# Altium footprint library IC_DIP.PCBLIB: 27 footprints (part 2 of 2)
Each footprint in its own frame and in the unit in brackets; x right, y up, seen from the top. Pads: shape width x height; smd on the part's side, far side on the other; paste and mask are expansions set on the pad; w line width, h text height; cw(c..) or ccw(c..) is an arc to the next point about the centre after c.
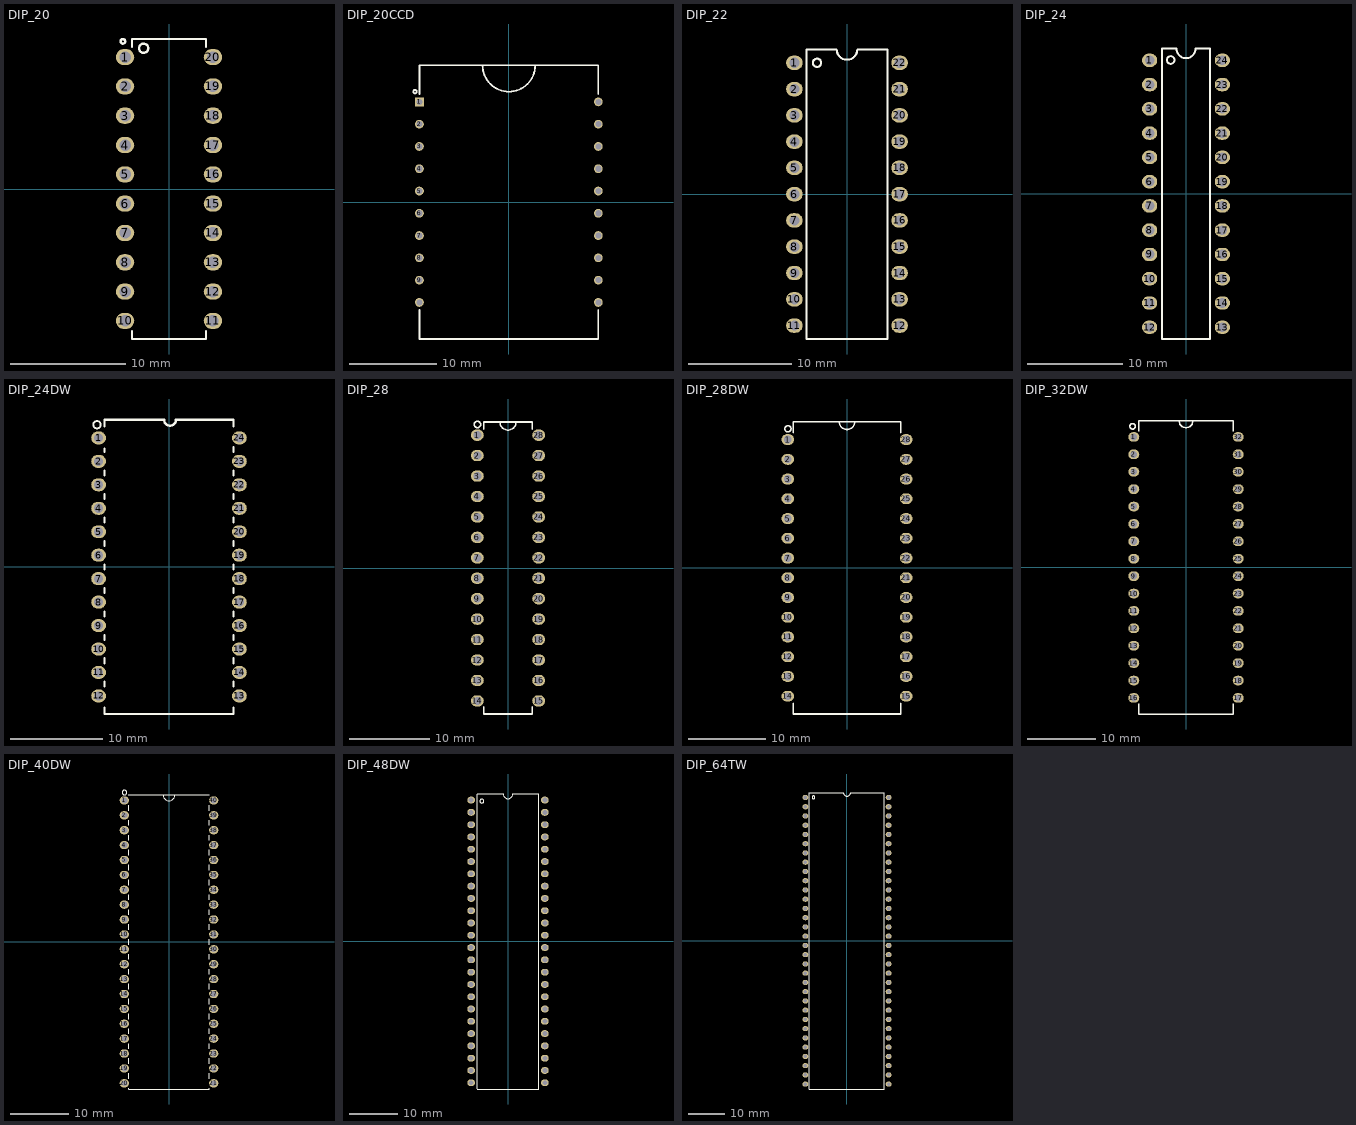
[diagram p1: the footprints below, top view; thin cyan lines are the x and y axes]

## DIP_20 [mm] "DIP, pitch 2.54mm, 300mil Width"
pads (20):
  oval 1.6x1.4 / inner round 1.4 / far side oval 2.2x1.4 hole 1: 1(-3.81,11.43) 2(-3.81,8.89) 3(-3.81,6.35) 4(-3.81,3.81) 5(-3.81,1.27) 6(-3.81,-1.27) 7(-3.81,-3.81) 8(-3.81,-6.35) 9(-3.81,-8.89) 10(-3.81,-11.43) 11(3.81,-11.43) 12(3.81,-8.89) 13(3.81,-6.35) 14(3.81,-3.81) 15(3.81,-1.27) 16(3.81,1.27) 17(3.81,3.81) 18(3.81,6.35) 19(3.81,8.89) 20(3.81,11.43)
TopOverlay:
  circle w0.2: c-4,12.8 r0.2
  circle w0.2: c-2.2,12.2 r0.4
  lines w0.2: -3.2,-12.3 -3.2,-13 3.2,-13 3.2,-12.3 ; -3.2,12.3 -3.2,13 3.2,13 3.2,12.3
3D body "User Library-20 pin dip.step": height 5.05, standoff -1.17, extent -3.937,-12.89 3.937,12.891

## DIP_20CCD [mm] "ICX285AL"
pads (20):
  rect 1x1 / inner rect 1x1 / far side rect 1.4x1.2 hole 0.7: 1(-10.2,11.43)
  round 1 / inner round 1 / far side oval 1.4x1.2 hole 0.7: 2(-10.2,8.89) 3(-10.2,6.35) 4(-10.2,3.81) 5(-10.2,1.27) 6(-10.2,-1.27) 7(-10.2,-3.81) 8(-10.2,-6.35) 9(-10.2,-8.89) 10(-10.2,-11.43) 11(10.2,-11.43) 12(10.2,-8.89) 13(10.2,-6.35) 14(10.2,-3.81) 15(10.2,-1.27) 16(10.2,1.27) 17(10.2,3.81) 18(10.2,6.35) 19(10.2,8.89) 20(10.2,11.43)
TopOverlay:
  circle w0.2: c-10.7,12.6 r0.2
  lines w0.2: -10.2,-12.3 -10.2,-15.6 10.2,-15.6 10.2,-12.3 ; -10.2,12.3 -10.2,15.6 10.2,15.6 10.2,12.3 ; -3,15.6 ccw(c0,15.6) 3,15.6

## DIP_22 [mm] "DIP, pitch 2.54mm, 400mil Width, 28X10mm"
pads (22):
  oval 1.6x1.4 / inner round 1.4 / far side oval 2.2x1.4 hole 1: 1(-5.08,12.7) 2(-5.08,10.16) 3(-5.08,7.62) 4(-5.08,5.08) 5(-5.08,2.54) 6(-5.08,0) 7(-5.08,-2.54) 8(-5.08,-5.08) 9(-5.08,-7.62) 10(-5.08,-10.16) 11(-5.08,-12.7) 12(5.08,-12.7) 13(5.08,-10.16) 14(5.08,-7.62) 15(5.08,-5.08) 16(5.08,-2.54) 17(5.08,0) 18(5.08,2.54) 19(5.08,5.08) 20(5.08,7.62) 21(5.08,10.16) 22(5.08,12.7)
TopOverlay:
  circle w0.2: c-2.9,12.7 r0.4
  lines w0.2: -3.9,-14 3.9,-14 3.9,14 1,14 cw(c0,14) -1,14 -3.9,14 -3.9,-14

## DIP_24 [mm] "DIP, pitch 2.54mm, 300mil Width"
pads (24):
  oval 1.6x1.4 / inner round 1.4 / far side oval 2.2x1.4 hole 1: 1(-3.81,13.97) 2(-3.81,11.43) 3(-3.81,8.89) 4(-3.81,6.35) 5(-3.81,3.81) 6(-3.81,1.27) 7(-3.81,-1.27) 8(-3.81,-3.81) 9(-3.81,-6.35) 10(-3.81,-8.89) 11(-3.81,-11.43) 12(-3.81,-13.97) 13(3.81,-13.97) 14(3.81,-11.43) 15(3.81,-8.89) 16(3.81,-6.35) 17(3.81,-3.81) 18(3.81,-1.27) 19(3.81,1.27) 20(3.81,3.81) 21(3.81,6.35) 22(3.81,8.89) 23(3.81,11.43) 24(3.81,13.97)
TopOverlay:
  circle w0.2: c-1.6,14 r0.4
  lines w0.2: -2.5,-15.2 -2.5,15.2 -1,15.2 ccw(c0,15.2) 1,15.2 2.5,15.2 2.5,-15.2 -2.5,-15.2

## DIP_24DW [mm] "DIP, pitch 2.54mm, 600mil Width"
pads (24):
  oval 1.6x1.4 / inner round 1.4 / far side oval 2.2x1.4 hole 1: 1(-7.62,13.97) 2(-7.62,11.43) 3(-7.62,8.89) 4(-7.62,6.35) 5(-7.62,3.81) 6(-7.62,1.27) 7(-7.62,-1.27) 8(-7.62,-3.81) 9(-7.62,-6.35) 10(-7.62,-8.89) 11(-7.62,-11.43) 12(-7.62,-13.97) 13(7.62,-13.97) 14(7.62,-11.43) 15(7.62,-8.89) 16(7.62,-6.35) 17(7.62,-3.81) 18(7.62,-1.27) 19(7.62,1.27) 20(7.62,3.81) 21(7.62,6.35) 22(7.62,8.89) 23(7.62,11.43) 24(7.62,13.97)
TopOverlay:
  circle w0.2: c-7.8,15.4 r0.4
  lines w0.254: -6.985,-15.24 -6.985,-15.926 6.985,-15.926 6.985,-15.24 ; -6.985,-12.954 -6.985,-12.446 ; -6.985,-10.414 -6.985,-9.906 ; -6.985,-7.874 -6.985,-7.366 ; -6.985,-5.334 -6.985,-4.826 ; -6.985,-2.794 -6.985,-2.286 ; -6.985,-0.254 -6.985,0.254 ; -6.985,2.286 -6.985,2.794 ; -6.985,4.826 -6.985,5.334 ; -6.985,7.366 -6.985,7.874 ; -6.985,9.906 -6.985,10.414 ; -6.985,12.446 -6.985,12.827 ; -6.985,15.24 -6.985,15.926 -0.545,15.926 ; -0.521,15.925 ccw(c0.114,15.925) 0.749,15.925 6.985,15.926 6.985,15.24 ; 6.985,-12.954 6.985,-12.446 ; 6.985,-10.414 6.985,-9.906 ; 6.985,-7.874 6.985,-7.366 ; 6.985,-5.334 6.985,-4.826 ; 6.985,-2.794 6.985,-2.286 ; 6.985,-0.254 6.985,0.254 ; 6.985,2.286 6.985,2.794 ; 6.985,4.826 6.985,5.334 ; 6.985,7.366 6.985,7.874 ; 6.985,9.906 6.985,10.414 ; 6.985,12.446 6.985,12.954
3D body "DDIP24-600.STEP": height 4, standoff -2, extent -7.745,-15.875 7.745,15.875

## DIP_28 [mm] "DIP, pitch 2.54mm, 300mil Width"
pads (28):
  oval 1.6x1.4 / inner round 1.4 / far side oval 2.2x1.4 hole 1: 1(-3.81,16.51) 2(-3.81,13.97) 3(-3.81,11.43) 4(-3.81,8.89) 5(-3.81,6.35) 6(-3.81,3.81) 7(-3.81,1.27) 8(-3.81,-1.27) 9(-3.81,-3.81) 10(-3.81,-6.35) 11(-3.81,-8.89) 12(-3.81,-11.43) 13(-3.81,-13.97) 14(-3.81,-16.51) 15(3.81,-16.51) 16(3.81,-13.97) 17(3.81,-11.43) 18(3.81,-8.89) 19(3.81,-6.35) 20(3.81,-3.81) 21(3.81,-1.27) 22(3.81,1.27) 23(3.81,3.81) 24(3.81,6.35) 25(3.81,8.89) 26(3.81,11.43) 27(3.81,13.97) 28(3.81,16.51)
TopOverlay:
  circle w0.2: c-3.8,17.84 r0.4
  lines w0.2: -3,-17.24 -3,-18.14 3,-18.14 3,-17.24 ; -3,17.24 -3,18.14 3,18.14 3,17.24 ; -1,18.14 ccw(c0,18.14) 1,18.14
3D body "User Library-DIP28-300.step": height 5.08, standoff -2.49, extent -3.935,-18 3.935,18

## DIP_28DW [mm] "DIP, pitch 2.54mm, 600mil Width"
pads (28):
  oval 1.6x1.4 / inner round 1.4 / far side oval 2.2x1.4 hole 1: 1(-7.62,16.51) 2(-7.62,13.97) 3(-7.62,11.43) 4(-7.62,8.89) 5(-7.62,6.35) 6(-7.62,3.81) 7(-7.62,1.27) 8(-7.62,-1.27) 9(-7.62,-3.81) 10(-7.62,-6.35) 11(-7.62,-8.89) 12(-7.62,-11.43) 13(-7.62,-13.97) 14(-7.62,-16.51) 15(7.62,-16.51) 16(7.62,-13.97) 17(7.62,-11.43) 18(7.62,-8.89) 19(7.62,-6.35) 20(7.62,-3.81) 21(7.62,-1.27) 22(7.62,1.27) 23(7.62,3.81) 24(7.62,6.35) 25(7.62,8.89) 26(7.62,11.43) 27(7.62,13.97) 28(7.62,16.51)
TopOverlay:
  circle w0.2: c-7.6,17.9 r0.4
  lines w0.2: -6.9,-17.4 -6.9,-18.8 6.9,-18.8 6.9,-17.4 ; -6.9,17.4 -6.9,18.8 6.9,18.8 6.9,17.4 ; -1,18.8 ccw(c0,18.8) 1,18.8
3D body "User Library-DIP28 Wide.STEP": height 6.09, standoff -2.81, extent -7.62,-18.67 7.82,18.67

## DIP_32DW [mm] "DIP, pitch 2.54mm, 600mil Width"
pads (32):
  oval 1.6x1.4 / inner round 1.4 / far side oval 2.2x1.4 hole 1: 1(-7.62,19.05) 2(-7.62,16.51) 3(-7.62,13.97) 4(-7.62,11.43) 5(-7.62,8.89) 6(-7.62,6.35) 7(-7.62,3.81) 8(-7.62,1.27) 9(-7.62,-1.27) 10(-7.62,-3.81) 11(-7.62,-6.35) 12(-7.62,-8.89) 13(-7.62,-11.43) 14(-7.62,-13.97) 15(-7.62,-16.51) 16(-7.62,-19.05) 17(7.62,-19.05) 18(7.62,-16.51) 19(7.62,-13.97) 20(7.62,-11.43) 21(7.62,-8.89) 22(7.62,-6.35) 23(7.62,-3.81) 24(7.62,-1.27) 25(7.62,1.27) 26(7.62,3.81) 27(7.62,6.35) 28(7.62,8.89) 29(7.62,11.43) 30(7.62,13.97) 31(7.62,16.51) 32(7.62,19.05)
TopOverlay:
  circle w0.2: c-7.8,20.6 r0.4
  lines w0.2: -6.9,-19.9 -6.9,-21.4 6.9,-21.4 6.9,-19.9 ; -6.9,19.9 -6.9,21.4 6.9,21.4 6.9,19.9 ; -1,21.4 ccw(c0,21.4) 1,21.4

## DIP_40DW [mm] "DIP, pitch 2.54mm, 600mil Width"
pads (40):
  oval 1.6x1.4 / inner round 1.4 / far side oval 2.2x1.4 hole 1: 1(-7.62,24.13) 2(-7.62,21.59) 3(-7.62,19.05) 4(-7.62,16.51) 5(-7.62,13.97) 6(-7.62,11.43) 7(-7.62,8.89) 8(-7.62,6.35) 9(-7.62,3.81) 10(-7.62,1.27) 11(-7.62,-1.27) 12(-7.62,-3.81) 13(-7.62,-6.35) 14(-7.62,-8.89) 15(-7.62,-11.43) 16(-7.62,-13.97) 17(-7.62,-16.51) 18(-7.62,-19.05) 19(-7.62,-21.59) 20(-7.62,-24.13) 21(7.62,-24.13) 22(7.62,-21.59) 23(7.62,-19.05) 24(7.62,-16.51) 25(7.62,-13.97) 26(7.62,-11.43) 27(7.62,-8.89) 28(7.62,-6.35) 29(7.62,-3.81) 30(7.62,-1.27) 31(7.62,1.27) 32(7.62,3.81) 33(7.62,6.35) 34(7.62,8.89) 35(7.62,11.43) 36(7.62,13.97) 37(7.62,16.51) 38(7.62,19.05) 39(7.62,21.59) 40(7.62,24.13)
TopOverlay:
  circle w0.2: c-7.6,25.48 r0.4
  lines w0.2: -6.9,-24.98 -6.9,-25.1 6.9,-25.1 6.9,-24.98 ; -6.9,-23.32 -6.9,-22.42 ; -6.9,-20.78 -6.9,-19.88 ; -6.9,-18.24 -6.9,-17.34 ; -6.9,-15.7 -6.9,-14.8 ; -6.9,-13.16 -6.9,-12.26 ; -6.9,-10.62 -6.9,-9.72 ; -6.9,-8.08 -6.9,-7.18 ; -6.9,-5.54 -6.9,-4.64 ; -6.9,-3 -6.9,-2.1 ; -6.9,-0.46 -6.9,0.44 ; -6.9,2.08 -6.9,2.98 ; -6.9,4.62 -6.9,5.52 ; -6.9,7.16 -6.9,8.06 ; -6.9,9.7 -6.9,10.6 ; -6.9,12.24 -6.9,13.14 ; -6.9,14.78 -6.9,15.68 ; -6.9,17.32 -6.9,18.22 ; -6.9,19.86 -6.9,20.76 ; -6.9,22.4 -6.9,23.3 ; -6.9,24.98 -6.9,25.1 6.9,25.1 6.9,24.98 ; -1,25.08 ccw(c0,25.08) 1,25.08 ; 6.9,-23.32 6.9,-22.42 ; 6.9,-20.78 6.9,-19.88 ; 6.9,-18.24 6.9,-17.34 ; 6.9,-15.7 6.9,-14.8 ; 6.9,-13.16 6.9,-12.26 ; 6.9,-10.62 6.9,-9.72 ; 6.9,-8.08 6.9,-7.18 ; 6.9,-5.54 6.9,-4.64 ; 6.9,-3 6.9,-2.1 ; 6.9,-0.46 6.9,0.44 ; 6.9,2.08 6.9,2.98 ; 6.9,4.62 6.9,5.52 ; 6.9,7.16 6.9,8.06 ; 6.9,9.7 6.9,10.6 ; 6.9,12.24 6.9,13.14 ; 6.9,14.78 6.9,15.68 ; 6.9,17.32 6.9,18.22 ; 6.9,19.86 6.9,20.76 ; 6.9,22.4 6.9,23.3
3D body "DIP40-600-metric.step": height 5.5, standoff -3.9, extent -7.65,-25 7.65,25

## DIP_48DW [mm] "DIP, pitch 2.54mm, 600mil Width"
pads (48):
  oval 1.6x1.4 / inner round 1.4 / far side oval 2.2x1.4 hole 1: 1(-7.62,29.21) 2(-7.62,26.67) 3(-7.62,24.13) 4(-7.62,21.59) 5(-7.62,19.05) 6(-7.62,16.51) 7(-7.62,13.97) 8(-7.62,11.43) 9(-7.62,8.89) 10(-7.62,6.35) 11(-7.62,3.81) 12(-7.62,1.27) 13(-7.62,-1.27) 14(-7.62,-3.81) 15(-7.62,-6.35) 16(-7.62,-8.89) 17(-7.62,-11.43) 18(-7.62,-13.97) 19(-7.62,-16.51) 20(-7.62,-19.05) 21(-7.62,-21.59) 22(-7.62,-24.13) 23(-7.62,-26.67) 24(-7.62,-29.21) 25(7.62,-29.21) 26(7.62,-26.67) 27(7.62,-24.13) 28(7.62,-21.59) 29(7.62,-19.05) 30(7.62,-16.51) 31(7.62,-13.97) 32(7.62,-11.43) 33(7.62,-8.89) 34(7.62,-6.35) 35(7.62,-3.81) 36(7.62,-1.27) 37(7.62,1.27) 38(7.62,3.81) 39(7.62,6.35) 40(7.62,8.89) 41(7.62,11.43) 42(7.62,13.97) 43(7.62,16.51) 44(7.62,19.05) 45(7.62,21.59) 46(7.62,24.13) 47(7.62,26.67) 48(7.62,29.21)
TopOverlay:
  circle w0.2: c-5.4,29 r0.4
  lines w0.2: -6.4,-30.5 6.4,-30.5 ; -6.4,-30.4 -6.4,30.4 ; -6.4,30.5 -1,30.5 ccw(c0,30.5) 1,30.5 6.4,30.5 ; 6.4,-30.4 6.4,30.4

## DIP_64TW [mm] "DIP, pitch 2.54mm, 900mil Width"
pads (64):
  oval 1.6x1.4 / inner round 1.4 / far side oval 2.2x1.4 hole 1: 1(-11.43,39.37) 2(-11.43,36.83) 3(-11.43,34.29) 4(-11.43,31.75) 5(-11.43,29.21) 6(-11.43,26.67) 7(-11.43,24.13) 8(-11.43,21.59) 9(-11.43,19.05) 10(-11.43,16.51) 11(-11.43,13.97) 12(-11.43,11.43) 13(-11.43,8.89) 14(-11.43,6.35) 15(-11.43,3.81) 16(-11.43,1.27) 17(-11.43,-1.27) 18(-11.43,-3.81) 19(-11.43,-6.35) 20(-11.43,-8.89) 21(-11.43,-11.43) 22(-11.43,-13.97) 23(-11.43,-16.51) 24(-11.43,-19.05) 25(-11.43,-21.59) 26(-11.43,-24.13) 27(-11.43,-26.67) 28(-11.43,-29.21) 29(-11.43,-31.75) 30(-11.43,-34.29) 31(-11.43,-36.83) 32(-11.43,-39.37) 33(11.43,-39.37) 34(11.43,-36.83) 35(11.43,-34.29) 36(11.43,-31.75) 37(11.43,-29.21) 38(11.43,-26.67) 39(11.43,-24.13) 40(11.43,-21.59) 41(11.43,-19.05) 42(11.43,-16.51) 43(11.43,-13.97) 44(11.43,-11.43) 45(11.43,-8.89) 46(11.43,-6.35) 47(11.43,-3.81) 48(11.43,-1.27) 49(11.43,1.27) 50(11.43,3.81) 51(11.43,6.35) 52(11.43,8.89) 53(11.43,11.43) 54(11.43,13.97) 55(11.43,16.51) 56(11.43,19.05) 57(11.43,21.59) 58(11.43,24.13) 59(11.43,26.67) 60(11.43,29.21) 61(11.43,31.75) 62(11.43,34.29) 63(11.43,36.83) 64(11.43,39.37)
TopOverlay:
  circle w0.2: c-9.2,39.4 r0.4
  lines w0.2: -10.3,-40.7 10.3,-40.7 10.3,40.7 1,40.7 cw(c0,40.7) -1,40.7 -10.3,40.7 -10.3,-40.7